# EAGLE library part LSF-SMT_5.08_4_90 (library weidmueller_martin)
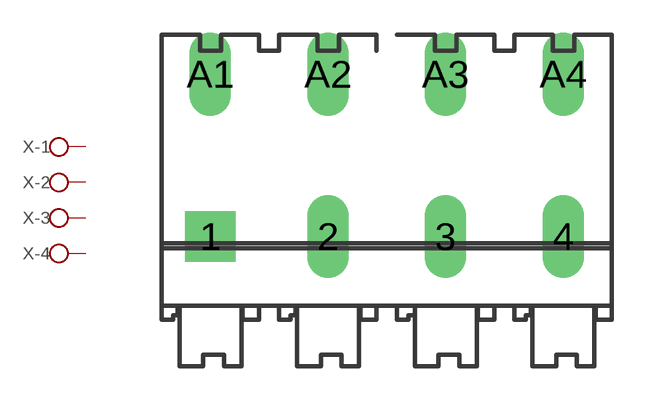
[diagram p1: symbol with the pads of LSF-ST_5.08_4; footprint LSF-ST_5.08_4]

Designator prefix X; gates -1=KL -2=KL -3=KL -4=KL

## LSF-SMT_5.08_4_90  [LSF-ST_5.08_4]
1  -1:KL  pas
2  -2:KL  pas
3  -3:KL  pas
4  -4:KL  pas
A1  -1:KL  pas
A2  -2:KL  pas
A3  -3:KL  pas
A4  -4:KL  pas

## Footprint LSF-ST_5.08_4 (pad centres in mm)
drill 1.2 pad 2.184 square: 1 0,-7
drill 1.2 long: 2 5.08,-7; 3 10.16,-7; 4 15.24,-7; A1 0,0; A2 5.08,0; A3 10.16,0; A4 15.24,0